# Altium schematic symbol library 24CW1280T-I_OT.SchLib: 1 symbol
Pins are listed as number, name and electrical type; pins without a type are passive.

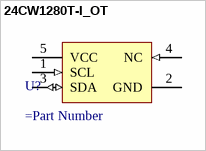
[diagram p0: symbol 24CW1280T-I_OT]

## 24CW1280T-I_OT
designator U?
=Description
pins: 1 SCL (in), 2 GND (power), 3 SDA (io), 4 NC (in), 5 VCC (power)